# Altium footprint library SHOCK-M-306-114.PcbLib: 1 footprints
Each footprint in its own frame and in the unit in brackets; x right, y up, seen from the top. Pads: shape width x height; smd on the part's side, far side on the other; paste and mask are expansions set on the pad; w line width, h text height; cw(c..) or ccw(c..) is an arc to the next point about the centre after c.
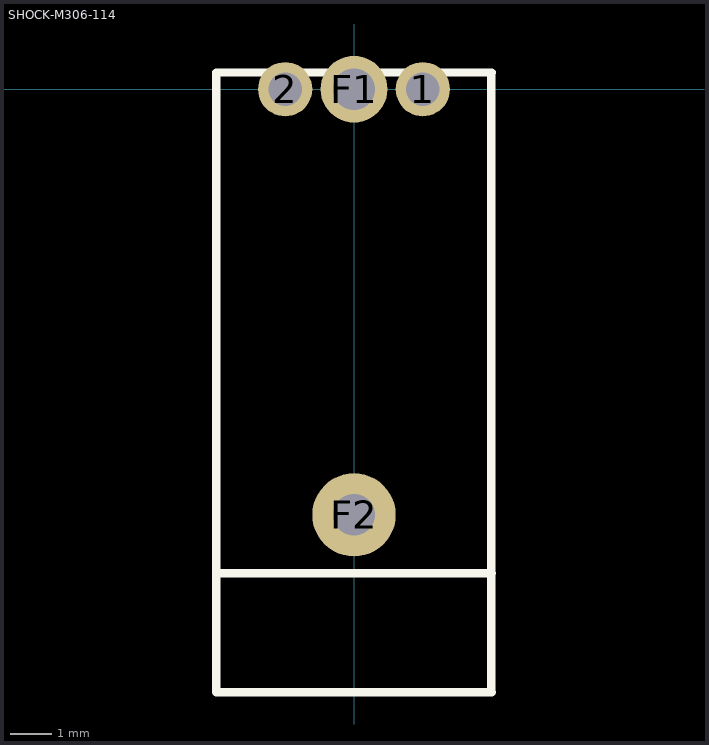
[diagram p0: the footprint, top view; thin cyan lines are the x and y axes]

## SHOCK-M306-114 [mm]
pads (4):
  round 1.3 hole 0.8: 1(1.65,0) 2(-1.65,0)
  round 1.6 hole 1: F1(0,0)
  round 2 hole 1: F2(0,-10.2)
Top Overlay:
  lines w0.2: -3.3,-11.6 3.3,-11.6 ; -3.3,0.35 -3.3,-14.45 3.3,-14.45 ; -3.3,0.4 3.3,0.4 ; 3.29,-14.45 3.29,0.35
3D body: height 6.6, standoff -2.98, extent -3.3,-14.45 3.29,0.25